# Altium schematic symbol library 502570-0893.SchLib: 1 symbol
Pins are listed as number, name and electrical type; pins without a type are passive.

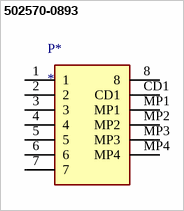
[diagram p0: symbol 502570-0893]

## 502570-0893
designator P*
pins: 1, 2, 3, 4, 5, 6, 7, 8, CD1, MP1, MP2, MP3, MP4